# Altium schematic symbol library PA4309.104NLT.SchLib: 1 symbol
Pins are listed as number, name and electrical type; pins without a type are passive.

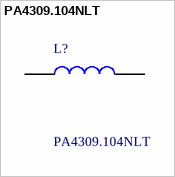
[diagram p0: symbol PA4309.104NLT]

## PA4309.104NLT
designator L?
Inductor Power Unshielded Drum Core 100uH 20% 100KHz 3.5A 405mOhm DCR T/R; Manufacturer_Name: Yageo Group; Geometry.Height: 7mm; Manufacturer_Part_Number: PA4309.104NLT; Mouser Part Number: 673-PA4309.104NLT; Mouser Price/Stock: https://www.mouser.co.uk/ProductDetail/Pulse-Electronics/PA4309.104NLT?qs=MffrMO56dLbFdwJL%252B6MqkQ%3D%3D; Arrow Part Number: PA4309.104NLT; Arrow Price/Stock: https://www.arrow.com/en/products/pa4309.104nlt/pulse-electronics-corporation?region=nac; Datasheet Link: https://productfinder.pulseelectronics.com/api/open/part-attachments/datasheet/PA4309.104NLT
footprint PA4309104NLT
pins: 1, 2